# EAGLE library part TCAN1164 (library TCAN1043GDMTRQ1)
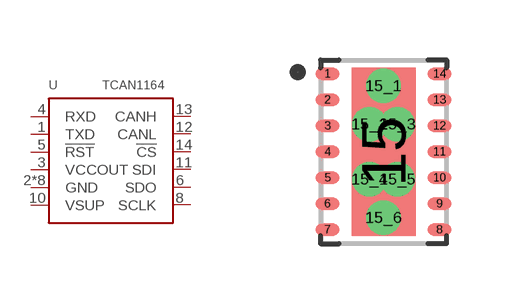
[diagram p0: symbol with the pads of CONV_TPS63021DSJ; footprint CONV_TPS63021DSJ]

Designator prefix U

## TCAN1164  [CONV_TPS63021DSJ]
1  TXD
2  GND
3  VCCOUT
4  RXD
5  !RST
6  SDO
8  SCLK
10  VSUP
11  SDI
12  CANL
13  CANH
14  !CS
15  GND
15_1  GND
15_2  GND
15_3  GND
15_4  GND
15_5  GND
15_6  GND

## Footprint CONV_TPS63021DSJ (pad centres in mm)
smd 0.6 x 0.3: 1 -1.4,1.95; 2 -1.4,1.3; 3 -1.4,0.65; 4 -1.4,0; 5 -1.4,-0.65; 6 -1.4,-1.3; 7 -1.4,-1.95; 8 1.4,-1.95; 9 1.4,-1.3; 10 1.4,-0.65; 11 1.4,0; 12 1.4,0.65; 13 1.4,1.3; 14 1.4,1.95
smd 1.6 x 4.2: 15 0,0
drill 0.35 pad 0.406: 15_1 0,1.65; 15_2 -0.35,0.69; 15_3 0.35,0.69; 15_4 -0.35,-0.69; 15_5 0.35,-0.69; 15_6 0,-1.65